# EAGLE library part AT45DB642D (library X893)
http://www.terraelectronica.ru/pdf/ATMEL/AT45DB642.pdf
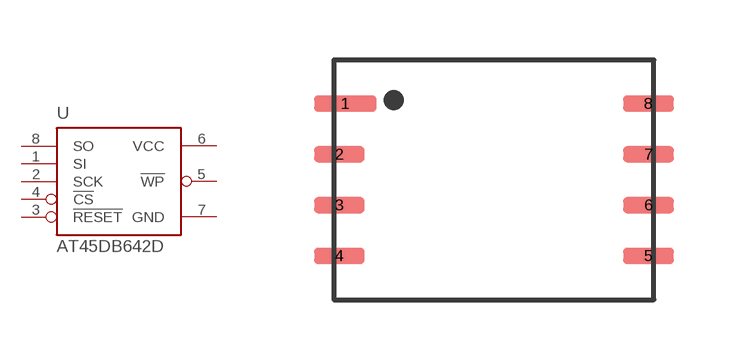
[diagram p33: symbol with the pads of CASON8; footprint CASON8]

Designator prefix U

## AT45DB642D  [CASON8]
1  SI  in
2  SCK  in
3  !RESET  in
4  !CS  in
5  !WP  in
6  VCC  pas
7  GND  sup
8  SO  out

## Footprint CASON8 (pad centres in mm)
smd 1.57 x 0.41: 1 -3.715,1.905
smd 1.27 x 0.41: 2 -3.865,0.635; 3 -3.865,-0.635; 4 -3.865,-1.905; 5 3.865,-1.905; 6 3.865,-0.635; 7 3.865,0.635; 8 3.865,1.905